# EAGLE library part CONN-14P (library pinconn)
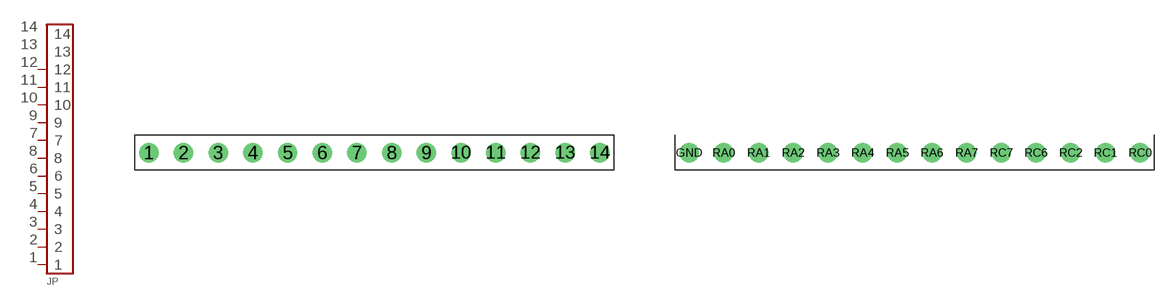
[diagram p10: symbol with the pads of CONN-14P; footprints CONN-14P, PICSTICK_JP1]

Designator prefix JP

## CONN-14P  [CONN-14P]
1  1
2  2
3  3
4  4
5  5
6  6
7  7
8  8
9  9
10  10
11  11
12  12
13  13
14  14

## CONN-14P-PICSTICK-JP1  [PICSTICK_JP1]
GND  1
RA0  2
RA1  3
RA2  4
RA3  5
RA4  6
RA5  7
RA6  8
RA7  9
RC0  14
RC1  13
RC2  12
RC6  11
RC7  10

## CONN-14P-PICSTICK-JP2  [PICSTICK_JP2]
/MCLR  10
/RST  1
PGC  14
PGD  13
RB0  9
RB1  8
RB2  7
RB3  6
RB4  5
RB5  4
RB6  3
RB7  2
VDD  11
VSS  12

## Footprint CONN-14P (pad centres in mm)
Pin connectors
drill 0.9 pad 1.422: 1 -16.51,0; 2 -13.97,0; 3 -11.43,0; 4 -8.89,0; 5 -6.35,0; 6 -3.81,0; 7 -1.27,0; 8 1.27,0; 9 3.81,0; 10 6.35,0; 11 8.89,0; 12 11.43,0; 13 13.97,0; 14 16.51,0

## Footprint PICSTICK_JP1 (pad centres in mm)
drill 0.9 pad 1.422: GND -17.78,0; RA0 -15.24,0; RA1 -12.7,0; RA2 -10.16,0; RA3 -7.62,0; RA4 -5.08,0; RA5 -2.54,0; RA6 0,0; RA7 2.54,0; RC0 15.24,0; RC1 12.7,0; RC2 10.16,0; RC6 7.62,0; RC7 5.08,0

## Footprint PICSTICK_JP2 (pad centres in mm)
drill 0.9 pad 1.422: /MCLR 5.08,0; /RST -17.78,0; PGC 15.24,0; PGD 12.7,0; RB0 2.54,0; RB1 0,0; RB2 -2.54,0; RB3 -5.08,0; RB4 -7.62,0; RB5 -10.16,0; RB6 -12.7,0; RB7 -15.24,0; VDD 7.62,0; VSS 10.16,0